# Altium integrated library Linear Technology PMIC-Switching Reg LTC1174-LTC3901.IntLib: 2647 symbols (part 278 of 310)
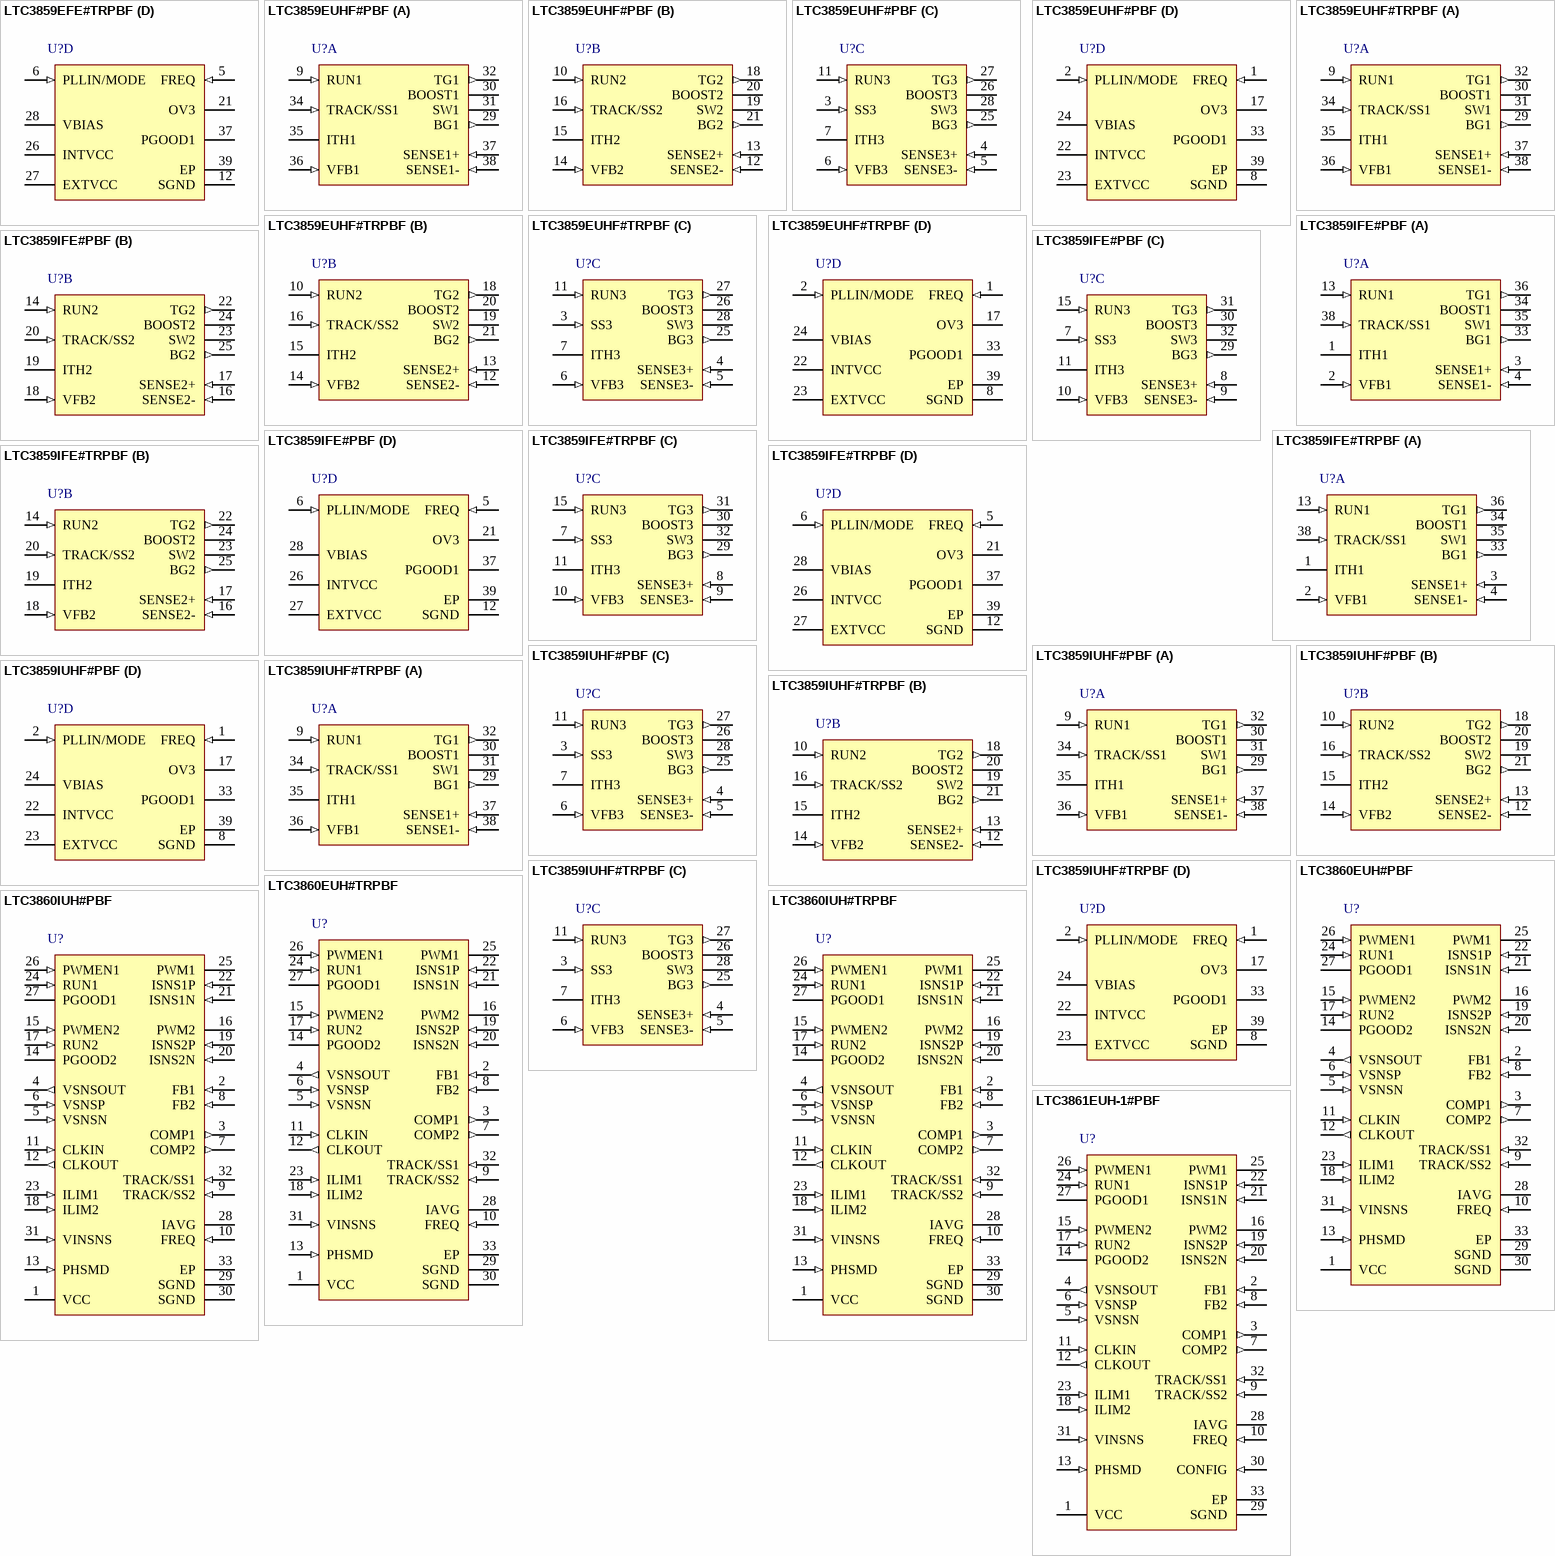
[diagram p283: symbols LTC3859EFE#TRPBF to LTC3861EUH-1#PBF]

## LTC3859IUHF#PBF
designator U?
Low IQ, Triple Output, Buck / Buck / Boost Synchronous Controller with Improved Burst Mode Operation, 38-pin QFN (UHF-38), -40 to 125 degC, Pb-Free; Manufacturer: Linear Technology; PartNumber: LTC3859IUHF#PBF; Number of Outputs: 3; PackageReference: UHF-38; PackageDescription: 38-Pin Plastic QFN, Body 7 x 5 mm, Pitch 0.5 mm; Supplier 1: Digi-Key; Supplier Part Number 1: LTC3859IUHF#PBF-ND; RoHS: TRUE; Code_JEDEC: MO-220
footprint LT-UHF-38_N (QFN, 38-Leads, Body 7.1x5.1mm, Pitch 0.5mm, Thermal Pad 3.15x5.15mm, IPC Medium Density)
footprint LT-UHF-38_L (QFN, 38-Leads, Body 7.1x5.1mm, Pitch 0.5mm, Thermal Pad 3.15x5.15mm, IPC High Density)
footprint LT-UHF-38_M (QFN, 38-Leads, Body 7.1x5.1mm, Pitch 0.5mm, Thermal Pad 3.15x5.15mm, IPC Low Density)
part A pins: 9 RUN1 (in) "Digital Run Control Inputs for Each Controller.", 29 BG1 (out) "High Current Gate Drives for Bottom (Synchronous) N-Channel MOSFETs. Voltage swing at these pins is from ground to INTVCC.", 30 BOOST1 "Bootstrapped Supplies to the Top Side Floating Drivers. Capacitors are connected between the BOOST and SW pins and Schottky diodes are tied between the BOOST and INTVCC pins. Voltage swing at the BOOST pins is from INTVCC to (See Datasheet)", 31 SW1 "Switch Node Connections to Inductors", 32 TG1 (out) "High Current Gate Drives for Top N-Channel MOSFETs. These are the outputs of floating drivers with a voltage swing equal to INTVCC superimposed on the switch node voltage SW.", 34 TRACK/SS1 (in) "External Tracking and Soft-Start Input.", 35 ITH1 "Error Amplifier Outputs and Switching Regulator Compensation Points. Each associated channel’s current comparator trip point increases with this control voltage.", 36 VFB1 (in) "Receives the remotely sensed feedback voltage for each controller from an external resistive divider across the output.", 37 SENSE1+ (in) "The (+) Input to the Differential Current Comparators. The ITH pin voltage and controlled offsets between the SENSE- and SENSE+ pins in conjunction with RSENSE set the current trip threshold. For the boost channel, the (See Datasheet)", 38 SENSE1- (in) "The (-) Input to the Differential Current Comparators. When SENSE1,2- for the buck channels is greater than INTVCC, then SENSE1,2- pin supplies current to the current comparator."
part B pins: 10 RUN2 (in) "Digital Run Control Inputs for Each Controller.", 12 SENSE2- (in) "The (-) Input to the Differential Current Comparators. When SENSE1,2- for the buck channels is greater than INTVCC, then SENSE1,2- pin supplies current to the current comparator.", 13 SENSE2+ (in) "The (+) Input to the Differential Current Comparators. The ITH pin voltage and controlled offsets between the SENSE- and SENSE+ pins in conjunction with RSENSE set the current trip threshold. For the boost channel, the (See Datasheet)", 14 VFB2 (in) "Receives the remotely sensed feedback voltage for each controller from an external resistive divider across the output.", 15 ITH2 "Error Amplifier Outputs and Switching Regulator Compensation Points. Each associated channel’s current comparator trip point increases with this control voltage.", 16 TRACK/SS2 (in) "External Tracking and Soft-Start Input.", 18 TG2 (out) "High Current Gate Drives for Top N-Channel MOSFETs. These are the outputs of floating drivers with a voltage swing equal to INTVCC superimposed on the switch node voltage SW.", 19 SW2 "Switch Node Connections to Inductors", 20 BOOST2 "Bootstrapped Supplies to the Top Side Floating Drivers. Capacitors are connected between the BOOST and SW pins and Schottky diodes are tied between the BOOST and INTVCC pins. Voltage swing at the BOOST pins is from INTVCC to (See Datasheet)", 21 BG2 (out) "High Current Gate Drives for Bottom (Synchronous) N-Channel MOSFETs. Voltage swing at these pins is from ground to INTVCC."
part C pins: 3 SS3 (in) "External Tracking and Soft-Start Input.", 4 SENSE3+ (in) "The (+) Input to the Differential Current Comparators. The ITH pin voltage and controlled offsets between the SENSE- and SENSE+ pins in conjunction with RSENSE set the current trip threshold. For the boost channel, the (See Datasheet)", 5 SENSE3- (in) "The (-) Input to the Differential Current Comparators. When SENSE1,2- for the buck channels is greater than INTVCC, then SENSE1,2- pin supplies current to the current comparator.", 6 VFB3 (in) "Receives the remotely sensed feedback voltage for each controller from an external resistive divider across the output.", 7 ITH3 "Error Amplifier Outputs and Switching Regulator Compensation Points. Each associated channel’s current comparator trip point increases with this control voltage.", 11 RUN3 (in) "Digital Run Control Inputs for Each Controller.", 25 BG3 (out) "High Current Gate Drives for Bottom (Synchronous) N-Channel MOSFETs. Voltage swing at these pins is from ground to INTVCC.", 26 BOOST3 "Bootstrapped Supplies to the Top Side Floating Drivers. Capacitors are connected between the BOOST and SW pins and Schottky diodes are tied between the BOOST and INTVCC pins. Voltage swing at the BOOST pins is from INTVCC to (See Datasheet)", 27 TG3 (out) "High Current Gate Drives for Top N-Channel MOSFETs. These are the outputs of floating drivers with a voltage swing equal to INTVCC superimposed on the switch node voltage SW.", 28 SW3 "Switch Node Connections to Inductors"
part D pins: 1 FREQ (in) "The Frequency Control Pin for the Internal VCO. Connecting the pin to GND forces the VCO to a fixed low frequency of 350kHz. Connecting the pin to INTVCC forces the VCO to a fixed high frequency of 535kHz. Other frequencies (See Datasheet)", 2 PLLIN/MODE (in) "External Synchronization Input to Phase Detector and Forced Continuous Mode Input.", 8 SGND (power) "Small Signal Ground common to all three controllers, must be routed separately from high current grounds to the common (-) terminals of the CIN capacitors.", 17 OV3 (hiz) "Overvoltage Open-Drain Logic Output for the Boost Regulator. OV3 is pulled to ground when the voltage on the VFB3 pin is under 110% of its set point, and becomes high impedance when VFB3 goes over 110% of its set point.", 22 INTVCC (power) "Output of the Internal Linear Low Dropout Regulator. The driver and control circuits are powered from this voltage source. Must be decoupled to PGND with a minimum of 4.7uF ceramic or tantalum capacitor", 23 EXTVCC (power) "External Power Input to an Internal LDO Connected to INTVCC. This LDO supplies INTVCC power, bypassing the internal LDO powered from VBIAS whenever EXTVCC is higher than 4.7V. See EXTVCC Connection in the Applications (See Datasheet)", 24 VBIAS (power) "Main Bias Input Supply Pin. A bypass capacitor should be tied between this pin and the SGND pin", 33 PGOOD1 (oc) "Open-Drain Logic Output. PGOOD1 is pulled to ground when the voltage on the VFB1 pin is not within +/-10% of its set point.", 39 EP (power) "Driver Power Ground. Connects to the sources of bottom N-channel MOSFETs and the (-) terminal(s) of CIN. The exposed pad must be soldered to the PCB for rated electrical and thermal performance."

## LTC3859IUHF#TRPBF
designator U?
Low IQ, Triple Output, Buck / Buck / Boost Synchronous Controller with Improved Burst Mode Operation, 38-pin QFN (UHF-38), -40 to 125 degC, Pb-Free, Tape and Reel; Manufacturer: Linear Technology; PartNumber: LTC3859IUHF#TRPBF; Number of Outputs: 3; PackageReference: UHF-38; PackageDescription: 38-Pin Plastic QFN, Body 7 x 5 mm, Pitch 0.5 mm; Supplier 1: Digi-Key; Supplier Part Number 1: LTC3859IUHF#TRPBF-ND; RoHS: TRUE; Code_JEDEC: MO-220
footprint LT-UHF-38_N (QFN, 38-Leads, Body 7.1x5.1mm, Pitch 0.5mm, Thermal Pad 3.15x5.15mm, IPC Medium Density)
footprint LT-UHF-38_L (QFN, 38-Leads, Body 7.1x5.1mm, Pitch 0.5mm, Thermal Pad 3.15x5.15mm, IPC High Density)
footprint LT-UHF-38_M (QFN, 38-Leads, Body 7.1x5.1mm, Pitch 0.5mm, Thermal Pad 3.15x5.15mm, IPC Low Density)
part A pins: 9 RUN1 (in) "Digital Run Control Inputs for Each Controller.", 29 BG1 (out) "High Current Gate Drives for Bottom (Synchronous) N-Channel MOSFETs. Voltage swing at these pins is from ground to INTVCC.", 30 BOOST1 "Bootstrapped Supplies to the Top Side Floating Drivers. Capacitors are connected between the BOOST and SW pins and Schottky diodes are tied between the BOOST and INTVCC pins. Voltage swing at the BOOST pins is from INTVCC to (See Datasheet)", 31 SW1 "Switch Node Connections to Inductors", 32 TG1 (out) "High Current Gate Drives for Top N-Channel MOSFETs. These are the outputs of floating drivers with a voltage swing equal to INTVCC superimposed on the switch node voltage SW.", 34 TRACK/SS1 (in) "External Tracking and Soft-Start Input.", 35 ITH1 "Error Amplifier Outputs and Switching Regulator Compensation Points. Each associated channel’s current comparator trip point increases with this control voltage.", 36 VFB1 (in) "Receives the remotely sensed feedback voltage for each controller from an external resistive divider across the output.", 37 SENSE1+ (in) "The (+) Input to the Differential Current Comparators. The ITH pin voltage and controlled offsets between the SENSE- and SENSE+ pins in conjunction with RSENSE set the current trip threshold. For the boost channel, the (See Datasheet)", 38 SENSE1- (in) "The (-) Input to the Differential Current Comparators. When SENSE1,2- for the buck channels is greater than INTVCC, then SENSE1,2- pin supplies current to the current comparator."
part B pins: 10 RUN2 (in) "Digital Run Control Inputs for Each Controller.", 12 SENSE2- (in) "The (-) Input to the Differential Current Comparators. When SENSE1,2- for the buck channels is greater than INTVCC, then SENSE1,2- pin supplies current to the current comparator.", 13 SENSE2+ (in) "The (+) Input to the Differential Current Comparators. The ITH pin voltage and controlled offsets between the SENSE- and SENSE+ pins in conjunction with RSENSE set the current trip threshold. For the boost channel, the (See Datasheet)", 14 VFB2 (in) "Receives the remotely sensed feedback voltage for each controller from an external resistive divider across the output.", 15 ITH2 "Error Amplifier Outputs and Switching Regulator Compensation Points. Each associated channel’s current comparator trip point increases with this control voltage.", 16 TRACK/SS2 (in) "External Tracking and Soft-Start Input.", 18 TG2 (out) "High Current Gate Drives for Top N-Channel MOSFETs. These are the outputs of floating drivers with a voltage swing equal to INTVCC superimposed on the switch node voltage SW.", 19 SW2 "Switch Node Connections to Inductors", 20 BOOST2 "Bootstrapped Supplies to the Top Side Floating Drivers. Capacitors are connected between the BOOST and SW pins and Schottky diodes are tied between the BOOST and INTVCC pins. Voltage swing at the BOOST pins is from INTVCC to (See Datasheet)", 21 BG2 (out) "High Current Gate Drives for Bottom (Synchronous) N-Channel MOSFETs. Voltage swing at these pins is from ground to INTVCC."
part C pins: 3 SS3 (in) "External Tracking and Soft-Start Input.", 4 SENSE3+ (in) "The (+) Input to the Differential Current Comparators. The ITH pin voltage and controlled offsets between the SENSE- and SENSE+ pins in conjunction with RSENSE set the current trip threshold. For the boost channel, the (See Datasheet)", 5 SENSE3- (in) "The (-) Input to the Differential Current Comparators. When SENSE1,2- for the buck channels is greater than INTVCC, then SENSE1,2- pin supplies current to the current comparator.", 6 VFB3 (in) "Receives the remotely sensed feedback voltage for each controller from an external resistive divider across the output.", 7 ITH3 "Error Amplifier Outputs and Switching Regulator Compensation Points. Each associated channel’s current comparator trip point increases with this control voltage.", 11 RUN3 (in) "Digital Run Control Inputs for Each Controller.", 25 BG3 (out) "High Current Gate Drives for Bottom (Synchronous) N-Channel MOSFETs. Voltage swing at these pins is from ground to INTVCC.", 26 BOOST3 "Bootstrapped Supplies to the Top Side Floating Drivers. Capacitors are connected between the BOOST and SW pins and Schottky diodes are tied between the BOOST and INTVCC pins. Voltage swing at the BOOST pins is from INTVCC to (See Datasheet)", 27 TG3 (out) "High Current Gate Drives for Top N-Channel MOSFETs. These are the outputs of floating drivers with a voltage swing equal to INTVCC superimposed on the switch node voltage SW.", 28 SW3 "Switch Node Connections to Inductors"
part D pins: 1 FREQ (in) "The Frequency Control Pin for the Internal VCO. Connecting the pin to GND forces the VCO to a fixed low frequency of 350kHz. Connecting the pin to INTVCC forces the VCO to a fixed high frequency of 535kHz. Other frequencies (See Datasheet)", 2 PLLIN/MODE (in) "External Synchronization Input to Phase Detector and Forced Continuous Mode Input.", 8 SGND (power) "Small Signal Ground common to all three controllers, must be routed separately from high current grounds to the common (-) terminals of the CIN capacitors.", 17 OV3 (hiz) "Overvoltage Open-Drain Logic Output for the Boost Regulator. OV3 is pulled to ground when the voltage on the VFB3 pin is under 110% of its set point, and becomes high impedance when VFB3 goes over 110% of its set point.", 22 INTVCC (power) "Output of the Internal Linear Low Dropout Regulator. The driver and control circuits are powered from this voltage source. Must be decoupled to PGND with a minimum of 4.7uF ceramic or tantalum capacitor", 23 EXTVCC (power) "External Power Input to an Internal LDO Connected to INTVCC. This LDO supplies INTVCC power, bypassing the internal LDO powered from VBIAS whenever EXTVCC is higher than 4.7V. See EXTVCC Connection in the Applications (See Datasheet)", 24 VBIAS (power) "Main Bias Input Supply Pin. A bypass capacitor should be tied between this pin and the SGND pin", 33 PGOOD1 (oc) "Open-Drain Logic Output. PGOOD1 is pulled to ground when the voltage on the VFB1 pin is not within +/-10% of its set point.", 39 EP (power) "Driver Power Ground. Connects to the sources of bottom N-channel MOSFETs and the (-) terminal(s) of CIN. The exposed pad must be soldered to the PCB for rated electrical and thermal performance."

## LTC3860EUH#PBF
designator U?
Dual, Multiphase Step Down Voltage Mode DC/DC Controller with Current Sharing, 32-pin QFN (UH-32), -40 to 125 degC, Pb-Free; Manufacturer: Linear Technology; PartNumber: LTC3860EUH#PBF; Number of Outputs: 2; PackageReference: UH-32; PackageDescription: 32-Pin Plastic QFN, Body 5 x 5 mm, Pitch 0.5 mm; Supplier 1: Digi-Key; Supplier Part Number 1: LTC3860EUH#PBF-ND; RoHS: TRUE; Code_JEDEC: MO-220
footprint LT-UH-32_N (QFN, 32-Leads, Body 5.1x5.1mm, Pitch 0.5mm, Thermal Pad 3.45X3.45mm, IPC Medium Density)
footprint LT-UH-32_L (QFN, 32-Leads, Body 5.1x5.1mm, Pitch 0.5mm, Thermal Pad 3.45X3.45mm, IPC High Density)
footprint LT-UH-32_M (QFN, 32-Leads, Body 5.1x5.1mm, Pitch 0.5mm, Thermal Pad 3.45X3.45mm, IPC Low Density)
pins: 1 VCC (power) "Chip Supply Voltage. Bypass this pin to GND with a capacitor (0.1uF to 1uF ceramic) in close proximity to the chip.", 2 FB1 (in) "Error Amplifier Inverting Inputs. FB1 or FB2 can be connected to VSNSOUT via a resistor divider for remote VOUT sensing. The bottom of the divider should be connected to the SGND pin of the IC. The other FB, when used, is (See Datasheet)", 3 COMP1 (out) "Error Amplifier Outputs. PWM duty cycle increases with this control voltage. The error amplifiers in the LTC3860 are true operational amplifiers with low output impedance. As a result, the outputs of two active error (See Datasheet)", 4 VSNSOUT (out) "Differential Amplifier Output.", 5 VSNSN (in) "Remote Sense Differential Amplifier Inverting Input. Connect this pin to sense ground at the output load.", 6 VSNSP (in) "Remote Sense Differential Amplifier Noninverting Input. Connect this pin to VOUT at the output load.", 7 COMP2 (out) "Error Amplifier Outputs. PWM duty cycle increases with this control voltage. The error amplifiers in the LTC3860 are true operational amplifiers with low output impedance. As a result, the outputs of two active error (See Datasheet)", 8 FB2 (in) "Error Amplifier Inverting Inputs. FB1 or FB2 can be connected to VSNSOUT via a resistor divider for remote VOUT sensing. The bottom of the divider should be connected to the SGND pin of the IC. The other FB, when used, is (See Datasheet)", 9 TRACK/SS2 (in) "Soft-Start. The voltage ramp rate at these pins sets the voltage ramp rate of the outputs. Self soft-start is accomplished by placing a capacitor to ground.", 10 FREQ (in) "Frequency Set/Select Pin. If CLKIN is high, the resistor between this pin and SGND sets the switching frequency. If CLKIN is low, the logic state of this pin sets frequency. This pin sources 21uA.", 11 CLKIN (in) "External Clock Synchronization Input Pin. If an external clock is present at this pin, the switching frequency will be synchronized to the external clock. Otherwise, if high, a resistor from FREQ to SGND sets frequency; if (See Datasheet)", 12 CLKOUT (out) "Clock Output Pin. Used to synchronize other LTC3860s.", 13 PHSMD (in) "Phase Mode Pin. Selects Ch1-Ch2 and Ch1-CLKOUT phase relationship.", 14 PGOOD2 (oc) "Power Good Pins. Open-drain outputs that pull to ground when output voltage is not in regulation.", 15 PWMEN2 (in) "Enable Pin for Non-Three-State compatible drivers. This pin has an internal open-drain pull-up to VCC. An external resistor to SGND is required. This pin is low when the corresponding PWM pin is high impedance.", 16 PWM2 (hiz) "(Top) Gate Signal Output. This signal goes to the PWM or top gate input of the external gate driver or integrated driver MOSFET. This is a three-state compatible output.", 17 RUN2 (in) "Run Control Inputs. A voltage above 2.25V on either pin turns on the IC. However, forcing either of these pins below 2V causes the IC to shut down that particular channel. There are 1.5uA pull-up currents for these pins.", 18 ILIM2 (in) "Current Comparator Sense Voltage Limit Selection Pin. Connect a resistor from this pin to SGND. This pin sources 20uA. The resultant voltage sets the threshold for overcurrent protection.", 19 ISNS2P (in) "Current Sense Amplifier (+) Input. The (+) input to the current sense amplifier is normally connected to the midpoint of the inductor’s parallel RC sense circuit or to the node between the inductor and sense resistor i(See Datasheet)", 20 ISNS2N (in) "Current Sense Amplifier (-) Input. The (-) input to the current amplifier is normally connected to the respective VOUT.", 21 ISNS1N (in) "Current Sense Amplifier (-) Input. The (-) input to the current amplifier is normally connected to the respective VOUT.", 22 ISNS1P (in) "Current Sense Amplifier (+) Input. The (+) input to the current sense amplifier is normally connected to the midpoint of the inductor’s parallel RC sense circuit or to the node between the inductor and sense resistor i(See Datasheet)", 23 ILIM1 (in) "Current Comparator Sense Voltage Limit Selection Pin. Connect a resistor from this pin to SGND. This pin sources 20uA. The resultant voltage sets the threshold for overcurrent protection.", 24 RUN1 (in) "Run Control Inputs. A voltage above 2.25V on either pin turns on the IC. However, forcing either of these pins below 2V causes the IC to shut down that particular channel. There are 1.5uA pull-up currents for these pins.", 25 PWM1 (hiz) "(Top) Gate Signal Output. This signal goes to the PWM or top gate input of the external gate driver or integrated driver MOSFET. This is a three-state compatible output.", 26 PWMEN1 (in) "Enable Pin for Non-Three-State compatible drivers. This pin has an internal open-drain pull-up to VCC. An external resistor to SGND is required. This pin is low when the corresponding PWM pin is high impedance.", 27 PGOOD1 (oc) "Power Good Pins. Open-drain outputs that pull to ground when output voltage is not in regulation.", 28 IAVG "Average Current Output Pin. A capacitor tied to ground from this pin stores a voltage proportional to the master’s instantaneous average current when multiple outputs are paralleled. Tie the IAVG pin to ground when th(See Datasheet)", 29 SGND (power) "Ground. Pins 29, 30 and 33 are electrically connected internally. The exposed pad must be soldered to the PCB for rated thermal performance.", 30 SGND (power) "Ground. Pins 29, 30 and 33 are electrically connected internally. The exposed pad must be soldered to the PCB for rated thermal performance.", 31 VINSNS (in) "VIN Sense Pin. Connects to the VIN power supply to provide line feedforward compensation.A change in VIN immediately modulates the input to the PWM comparator and changes the pulse width in an inversely proportional manner, (See Datasheet)", 32 TRACK/SS1 (in) "Soft-Start. The voltage ramp rate at these pins sets the voltage ramp rate of the outputs. Self soft-start is accomplished by placing a capacitor to ground.", 33 EP (power) "Ground. Pins 29, 30 and 33 are electrically connected internally. The exposed pad must be soldered to the PCB for rated thermal performance."

## LTC3860EUH#TRPBF
designator U?
Dual, Multiphase Step Down Voltage Mode DC/DC Controller with Current Sharing, 32-pin QFN (UH-32), -40 to 125 degC, Pb-Free, Tape and Reel; Manufacturer: Linear Technology; PartNumber: LTC3860EUH#TRPBF; Number of Outputs: 2; PackageReference: UH-32; PackageDescription: 32-Pin Plastic QFN, Body 5 x 5 mm, Pitch 0.5 mm; Supplier 1: Digi-Key; Supplier Part Number 1: LTC3860EUH#TRPBF-ND; RoHS: TRUE; Code_JEDEC: MO-220
footprint LT-UH-32_N (QFN, 32-Leads, Body 5.1x5.1mm, Pitch 0.5mm, Thermal Pad 3.45X3.45mm, IPC Medium Density)
footprint LT-UH-32_L (QFN, 32-Leads, Body 5.1x5.1mm, Pitch 0.5mm, Thermal Pad 3.45X3.45mm, IPC High Density)
footprint LT-UH-32_M (QFN, 32-Leads, Body 5.1x5.1mm, Pitch 0.5mm, Thermal Pad 3.45X3.45mm, IPC Low Density)
pins: 1 VCC (power) "Chip Supply Voltage. Bypass this pin to GND with a capacitor (0.1uF to 1uF ceramic) in close proximity to the chip.", 2 FB1 (in) "Error Amplifier Inverting Inputs. FB1 or FB2 can be connected to VSNSOUT via a resistor divider for remote VOUT sensing. The bottom of the divider should be connected to the SGND pin of the IC. The other FB, when used, is (See Datasheet)", 3 COMP1 (out) "Error Amplifier Outputs. PWM duty cycle increases with this control voltage. The error amplifiers in the LTC3860 are true operational amplifiers with low output impedance. As a result, the outputs of two active error (See Datasheet)", 4 VSNSOUT (out) "Differential Amplifier Output.", 5 VSNSN (in) "Remote Sense Differential Amplifier Inverting Input. Connect this pin to sense ground at the output load.", 6 VSNSP (in) "Remote Sense Differential Amplifier Noninverting Input. Connect this pin to VOUT at the output load.", 7 COMP2 (out) "Error Amplifier Outputs. PWM duty cycle increases with this control voltage. The error amplifiers in the LTC3860 are true operational amplifiers with low output impedance. As a result, the outputs of two active error (See Datasheet)", 8 FB2 (in) "Error Amplifier Inverting Inputs. FB1 or FB2 can be connected to VSNSOUT via a resistor divider for remote VOUT sensing. The bottom of the divider should be connected to the SGND pin of the IC. The other FB, when used, is (See Datasheet)", 9 TRACK/SS2 (in) "Soft-Start. The voltage ramp rate at these pins sets the voltage ramp rate of the outputs. Self soft-start is accomplished by placing a capacitor to ground.", 10 FREQ (in) "Frequency Set/Select Pin. If CLKIN is high, the resistor between this pin and SGND sets the switching frequency. If CLKIN is low, the logic state of this pin sets frequency. This pin sources 21uA.", 11 CLKIN (in) "External Clock Synchronization Input Pin. If an external clock is present at this pin, the switching frequency will be synchronized to the external clock. Otherwise, if high, a resistor from FREQ to SGND sets frequency; if (See Datasheet)", 12 CLKOUT (out) "Clock Output Pin. Used to synchronize other LTC3860s.", 13 PHSMD (in) "Phase Mode Pin. Selects Ch1-Ch2 and Ch1-CLKOUT phase relationship.", 14 PGOOD2 (oc) "Power Good Pins. Open-drain outputs that pull to ground when output voltage is not in regulation.", 15 PWMEN2 (in) "Enable Pin for Non-Three-State compatible drivers. This pin has an internal open-drain pull-up to VCC. An external resistor to SGND is required. This pin is low when the corresponding PWM pin is high impedance.", 16 PWM2 (hiz) "(Top) Gate Signal Output. This signal goes to the PWM or top gate input of the external gate driver or integrated driver MOSFET. This is a three-state compatible output.", 17 RUN2 (in) "Run Control Inputs. A voltage above 2.25V on either pin turns on the IC. However, forcing either of these pins below 2V causes the IC to shut down that particular channel. There are 1.5uA pull-up currents for these pins.", 18 ILIM2 (in) "Current Comparator Sense Voltage Limit Selection Pin. Connect a resistor from this pin to SGND. This pin sources 20uA. The resultant voltage sets the threshold for overcurrent protection.", 19 ISNS2P (in) "Current Sense Amplifier (+) Input. The (+) input to the current sense amplifier is normally connected to the midpoint of the inductor’s parallel RC sense circuit or to the node between the inductor and sense resistor i(See Datasheet)", 20 ISNS2N (in) "Current Sense Amplifier (-) Input. The (-) input to the current amplifier is normally connected to the respective VOUT.", 21 ISNS1N (in) "Current Sense Amplifier (-) Input. The (-) input to the current amplifier is normally connected to the respective VOUT.", 22 ISNS1P (in) "Current Sense Amplifier (+) Input. The (+) input to the current sense amplifier is normally connected to the midpoint of the inductor’s parallel RC sense circuit or to the node between the inductor and sense resistor i(See Datasheet)", 23 ILIM1 (in) "Current Comparator Sense Voltage Limit Selection Pin. Connect a resistor from this pin to SGND. This pin sources 20uA. The resultant voltage sets the threshold for overcurrent protection.", 24 RUN1 (in) "Run Control Inputs. A voltage above 2.25V on either pin turns on the IC. However, forcing either of these pins below 2V causes the IC to shut down that particular channel. There are 1.5uA pull-up currents for these pins.", 25 PWM1 (hiz) "(Top) Gate Signal Output. This signal goes to the PWM or top gate input of the external gate driver or integrated driver MOSFET. This is a three-state compatible output.", 26 PWMEN1 (in) "Enable Pin for Non-Three-State compatible drivers. This pin has an internal open-drain pull-up to VCC. An external resistor to SGND is required. This pin is low when the corresponding PWM pin is high impedance.", 27 PGOOD1 (oc) "Power Good Pins. Open-drain outputs that pull to ground when output voltage is not in regulation.", 28 IAVG "Average Current Output Pin. A capacitor tied to ground from this pin stores a voltage proportional to the master’s instantaneous average current when multiple outputs are paralleled. Tie the IAVG pin to ground when th(See Datasheet)", 29 SGND (power) "Ground. Pins 29, 30 and 33 are electrically connected internally. The exposed pad must be soldered to the PCB for rated thermal performance.", 30 SGND (power) "Ground. Pins 29, 30 and 33 are electrically connected internally. The exposed pad must be soldered to the PCB for rated thermal performance.", 31 VINSNS (in) "VIN Sense Pin. Connects to the VIN power supply to provide line feedforward compensation.A change in VIN immediately modulates the input to the PWM comparator and changes the pulse width in an inversely proportional manner, (See Datasheet)", 32 TRACK/SS1 (in) "Soft-Start. The voltage ramp rate at these pins sets the voltage ramp rate of the outputs. Self soft-start is accomplished by placing a capacitor to ground.", 33 EP (power) "Ground. Pins 29, 30 and 33 are electrically connected internally. The exposed pad must be soldered to the PCB for rated thermal performance."

## LTC3860IUH#PBF
designator U?
Dual, Multiphase Step Down Voltage Mode DC/DC Controller with Current Sharing, 32-pin QFN (UH-32), -40 to 125 degC, Pb-Free; Manufacturer: Linear Technology; PartNumber: LTC3860IUH#PBF; Number of Outputs: 2; PackageReference: UH-32; PackageDescription: 32-Pin Plastic QFN, Body 5 x 5 mm, Pitch 0.5 mm; Supplier 1: Digi-Key; Supplier Part Number 1: LTC3860IUH#PBF-ND; RoHS: TRUE; Code_JEDEC: MO-220
footprint LT-UH-32_N (QFN, 32-Leads, Body 5.1x5.1mm, Pitch 0.5mm, Thermal Pad 3.45X3.45mm, IPC Medium Density)
footprint LT-UH-32_L (QFN, 32-Leads, Body 5.1x5.1mm, Pitch 0.5mm, Thermal Pad 3.45X3.45mm, IPC High Density)
footprint LT-UH-32_M (QFN, 32-Leads, Body 5.1x5.1mm, Pitch 0.5mm, Thermal Pad 3.45X3.45mm, IPC Low Density)
pins: 1 VCC (power) "Chip Supply Voltage. Bypass this pin to GND with a capacitor (0.1uF to 1uF ceramic) in close proximity to the chip.", 2 FB1 (in) "Error Amplifier Inverting Inputs. FB1 or FB2 can be connected to VSNSOUT via a resistor divider for remote VOUT sensing. The bottom of the divider should be connected to the SGND pin of the IC. The other FB, when used, is (See Datasheet)", 3 COMP1 (out) "Error Amplifier Outputs. PWM duty cycle increases with this control voltage. The error amplifiers in the LTC3860 are true operational amplifiers with low output impedance. As a result, the outputs of two active error (See Datasheet)", 4 VSNSOUT (out) "Differential Amplifier Output.", 5 VSNSN (in) "Remote Sense Differential Amplifier Inverting Input. Connect this pin to sense ground at the output load.", 6 VSNSP (in) "Remote Sense Differential Amplifier Noninverting Input. Connect this pin to VOUT at the output load.", 7 COMP2 (out) "Error Amplifier Outputs. PWM duty cycle increases with this control voltage. The error amplifiers in the LTC3860 are true operational amplifiers with low output impedance. As a result, the outputs of two active error (See Datasheet)", 8 FB2 (in) "Error Amplifier Inverting Inputs. FB1 or FB2 can be connected to VSNSOUT via a resistor divider for remote VOUT sensing. The bottom of the divider should be connected to the SGND pin of the IC. The other FB, when used, is (See Datasheet)", 9 TRACK/SS2 (in) "Soft-Start. The voltage ramp rate at these pins sets the voltage ramp rate of the outputs. Self soft-start is accomplished by placing a capacitor to ground.", 10 FREQ (in) "Frequency Set/Select Pin. If CLKIN is high, the resistor between this pin and SGND sets the switching frequency. If CLKIN is low, the logic state of this pin sets frequency. This pin sources 21uA.", 11 CLKIN (in) "External Clock Synchronization Input Pin. If an external clock is present at this pin, the switching frequency will be synchronized to the external clock. Otherwise, if high, a resistor from FREQ to SGND sets frequency; if (See Datasheet)", 12 CLKOUT (out) "Clock Output Pin. Used to synchronize other LTC3860s.", 13 PHSMD (in) "Phase Mode Pin. Selects Ch1-Ch2 and Ch1-CLKOUT phase relationship.", 14 PGOOD2 (oc) "Power Good Pins. Open-drain outputs that pull to ground when output voltage is not in regulation.", 15 PWMEN2 (in) "Enable Pin for Non-Three-State compatible drivers. This pin has an internal open-drain pull-up to VCC. An external resistor to SGND is required. This pin is low when the corresponding PWM pin is high impedance.", 16 PWM2 (hiz) "(Top) Gate Signal Output. This signal goes to the PWM or top gate input of the external gate driver or integrated driver MOSFET. This is a three-state compatible output.", 17 RUN2 (in) "Run Control Inputs. A voltage above 2.25V on either pin turns on the IC. However, forcing either of these pins below 2V causes the IC to shut down that particular channel. There are 1.5uA pull-up currents for these pins.", 18 ILIM2 (in) "Current Comparator Sense Voltage Limit Selection Pin. Connect a resistor from this pin to SGND. This pin sources 20uA. The resultant voltage sets the threshold for overcurrent protection.", 19 ISNS2P (in) "Current Sense Amplifier (+) Input. The (+) input to the current sense amplifier is normally connected to the midpoint of the inductor’s parallel RC sense circuit or to the node between the inductor and sense resistor i(See Datasheet)", 20 ISNS2N (in) "Current Sense Amplifier (-) Input. The (-) input to the current amplifier is normally connected to the respective VOUT.", 21 ISNS1N (in) "Current Sense Amplifier (-) Input. The (-) input to the current amplifier is normally connected to the respective VOUT.", 22 ISNS1P (in) "Current Sense Amplifier (+) Input. The (+) input to the current sense amplifier is normally connected to the midpoint of the inductor’s parallel RC sense circuit or to the node between the inductor and sense resistor i(See Datasheet)", 23 ILIM1 (in) "Current Comparator Sense Voltage Limit Selection Pin. Connect a resistor from this pin to SGND. This pin sources 20uA. The resultant voltage sets the threshold for overcurrent protection.", 24 RUN1 (in) "Run Control Inputs. A voltage above 2.25V on either pin turns on the IC. However, forcing either of these pins below 2V causes the IC to shut down that particular channel. There are 1.5uA pull-up currents for these pins.", 25 PWM1 (hiz) "(Top) Gate Signal Output. This signal goes to the PWM or top gate input of the external gate driver or integrated driver MOSFET. This is a three-state compatible output.", 26 PWMEN1 (in) "Enable Pin for Non-Three-State compatible drivers. This pin has an internal open-drain pull-up to VCC. An external resistor to SGND is required. This pin is low when the corresponding PWM pin is high impedance.", 27 PGOOD1 (oc) "Power Good Pins. Open-drain outputs that pull to ground when output voltage is not in regulation.", 28 IAVG "Average Current Output Pin. A capacitor tied to ground from this pin stores a voltage proportional to the master’s instantaneous average current when multiple outputs are paralleled. Tie the IAVG pin to ground when th(See Datasheet)", 29 SGND (power) "Ground. Pins 29, 30 and 33 are electrically connected internally. The exposed pad must be soldered to the PCB for rated thermal performance.", 30 SGND (power) "Ground. Pins 29, 30 and 33 are electrically connected internally. The exposed pad must be soldered to the PCB for rated thermal performance.", 31 VINSNS (in) "VIN Sense Pin. Connects to the VIN power supply to provide line feedforward compensation.A change in VIN immediately modulates the input to the PWM comparator and changes the pulse width in an inversely proportional manner, (See Datasheet)", 32 TRACK/SS1 (in) "Soft-Start. The voltage ramp rate at these pins sets the voltage ramp rate of the outputs. Self soft-start is accomplished by placing a capacitor to ground.", 33 EP (power) "Ground. Pins 29, 30 and 33 are electrically connected internally. The exposed pad must be soldered to the PCB for rated thermal performance."

## LTC3860IUH#TRPBF
designator U?
Dual, Multiphase Step Down Voltage Mode DC/DC Controller with Current Sharing, 32-pin QFN (UH-32), -40 to 125 degC, Pb-Free, Tape and Reel; Manufacturer: Linear Technology; PartNumber: LTC3860IUH#TRPBF; Number of Outputs: 2; PackageReference: UH-32; PackageDescription: 32-Pin Plastic QFN, Body 5 x 5 mm, Pitch 0.5 mm; Supplier 1: Digi-Key; Supplier Part Number 1: LTC3860IUH#TRPBF-ND; RoHS: TRUE; Code_JEDEC: MO-220
footprint LT-UH-32_N (QFN, 32-Leads, Body 5.1x5.1mm, Pitch 0.5mm, Thermal Pad 3.45X3.45mm, IPC Medium Density)
footprint LT-UH-32_L (QFN, 32-Leads, Body 5.1x5.1mm, Pitch 0.5mm, Thermal Pad 3.45X3.45mm, IPC High Density)
footprint LT-UH-32_M (QFN, 32-Leads, Body 5.1x5.1mm, Pitch 0.5mm, Thermal Pad 3.45X3.45mm, IPC Low Density)
pins: 1 VCC (power) "Chip Supply Voltage. Bypass this pin to GND with a capacitor (0.1uF to 1uF ceramic) in close proximity to the chip.", 2 FB1 (in) "Error Amplifier Inverting Inputs. FB1 or FB2 can be connected to VSNSOUT via a resistor divider for remote VOUT sensing. The bottom of the divider should be connected to the SGND pin of the IC. The other FB, when used, is (See Datasheet)", 3 COMP1 (out) "Error Amplifier Outputs. PWM duty cycle increases with this control voltage. The error amplifiers in the LTC3860 are true operational amplifiers with low output impedance. As a result, the outputs of two active error (See Datasheet)", 4 VSNSOUT (out) "Differential Amplifier Output.", 5 VSNSN (in) "Remote Sense Differential Amplifier Inverting Input. Connect this pin to sense ground at the output load.", 6 VSNSP (in) "Remote Sense Differential Amplifier Noninverting Input. Connect this pin to VOUT at the output load.", 7 COMP2 (out) "Error Amplifier Outputs. PWM duty cycle increases with this control voltage. The error amplifiers in the LTC3860 are true operational amplifiers with low output impedance. As a result, the outputs of two active error (See Datasheet)", 8 FB2 (in) "Error Amplifier Inverting Inputs. FB1 or FB2 can be connected to VSNSOUT via a resistor divider for remote VOUT sensing. The bottom of the divider should be connected to the SGND pin of the IC. The other FB, when used, is (See Datasheet)", 9 TRACK/SS2 (in) "Soft-Start. The voltage ramp rate at these pins sets the voltage ramp rate of the outputs. Self soft-start is accomplished by placing a capacitor to ground.", 10 FREQ (in) "Frequency Set/Select Pin. If CLKIN is high, the resistor between this pin and SGND sets the switching frequency. If CLKIN is low, the logic state of this pin sets frequency. This pin sources 21uA.", 11 CLKIN (in) "External Clock Synchronization Input Pin. If an external clock is present at this pin, the switching frequency will be synchronized to the external clock. Otherwise, if high, a resistor from FREQ to SGND sets frequency; if (See Datasheet)", 12 CLKOUT (out) "Clock Output Pin. Used to synchronize other LTC3860s.", 13 PHSMD (in) "Phase Mode Pin. Selects Ch1-Ch2 and Ch1-CLKOUT phase relationship.", 14 PGOOD2 (oc) "Power Good Pins. Open-drain outputs that pull to ground when output voltage is not in regulation.", 15 PWMEN2 (in) "Enable Pin for Non-Three-State compatible drivers. This pin has an internal open-drain pull-up to VCC. An external resistor to SGND is required. This pin is low when the corresponding PWM pin is high impedance.", 16 PWM2 (hiz) "(Top) Gate Signal Output. This signal goes to the PWM or top gate input of the external gate driver or integrated driver MOSFET. This is a three-state compatible output.", 17 RUN2 (in) "Run Control Inputs. A voltage above 2.25V on either pin turns on the IC. However, forcing either of these pins below 2V causes the IC to shut down that particular channel. There are 1.5uA pull-up currents for these pins.", 18 ILIM2 (in) "Current Comparator Sense Voltage Limit Selection Pin. Connect a resistor from this pin to SGND. This pin sources 20uA. The resultant voltage sets the threshold for overcurrent protection.", 19 ISNS2P (in) "Current Sense Amplifier (+) Input. The (+) input to the current sense amplifier is normally connected to the midpoint of the inductor’s parallel RC sense circuit or to the node between the inductor and sense resistor i(See Datasheet)", 20 ISNS2N (in) "Current Sense Amplifier (-) Input. The (-) input to the current amplifier is normally connected to the respective VOUT.", 21 ISNS1N (in) "Current Sense Amplifier (-) Input. The (-) input to the current amplifier is normally connected to the respective VOUT.", 22 ISNS1P (in) "Current Sense Amplifier (+) Input. The (+) input to the current sense amplifier is normally connected to the midpoint of the inductor’s parallel RC sense circuit or to the node between the inductor and sense resistor i(See Datasheet)", 23 ILIM1 (in) "Current Comparator Sense Voltage Limit Selection Pin. Connect a resistor from this pin to SGND. This pin sources 20uA. The resultant voltage sets the threshold for overcurrent protection.", 24 RUN1 (in) "Run Control Inputs. A voltage above 2.25V on either pin turns on the IC. However, forcing either of these pins below 2V causes the IC to shut down that particular channel. There are 1.5uA pull-up currents for these pins.", 25 PWM1 (hiz) "(Top) Gate Signal Output. This signal goes to the PWM or top gate input of the external gate driver or integrated driver MOSFET. This is a three-state compatible output.", 26 PWMEN1 (in) "Enable Pin for Non-Three-State compatible drivers. This pin has an internal open-drain pull-up to VCC. An external resistor to SGND is required. This pin is low when the corresponding PWM pin is high impedance.", 27 PGOOD1 (oc) "Power Good Pins. Open-drain outputs that pull to ground when output voltage is not in regulation.", 28 IAVG "Average Current Output Pin. A capacitor tied to ground from this pin stores a voltage proportional to the master’s instantaneous average current when multiple outputs are paralleled. Tie the IAVG pin to ground when th(See Datasheet)", 29 SGND (power) "Ground. Pins 29, 30 and 33 are electrically connected internally. The exposed pad must be soldered to the PCB for rated thermal performance.", 30 SGND (power) "Ground. Pins 29, 30 and 33 are electrically connected internally. The exposed pad must be soldered to the PCB for rated thermal performance.", 31 VINSNS (in) "VIN Sense Pin. Connects to the VIN power supply to provide line feedforward compensation.A change in VIN immediately modulates the input to the PWM comparator and changes the pulse width in an inversely proportional manner, (See Datasheet)", 32 TRACK/SS1 (in) "Soft-Start. The voltage ramp rate at these pins sets the voltage ramp rate of the outputs. Self soft-start is accomplished by placing a capacitor to ground.", 33 EP (power) "Ground. Pins 29, 30 and 33 are electrically connected internally. The exposed pad must be soldered to the PCB for rated thermal performance."